# EAGLE library part HX1 (library HAB)
Radiometrix HX1 High-power VHF Narrow Band 300 mW Transmitter
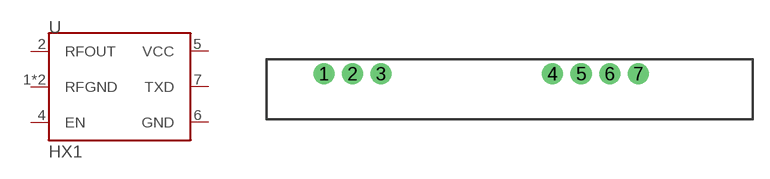
[diagram p0: symbol with the pads of 1X12; footprint 1X12]

Designator prefix U

## HX1  [1X12]
1  RFGND  pwr
2  RFOUT  out
3  RFGND  pwr
4  EN  in
5  VCC  pwr
6  GND  pwr
7  TXD  in

## Footprint 1X12 (pad centres in mm)
HX1 Radiometrix HX1
drill 1.016 pad 1.88: 1 0,0; 2 2.54,0; 3 5.08,0; 4 20.32,0; 5 22.86,0; 6 25.4,0; 7 27.94,0